# Altium schematic symbol library ACTIVE_LOW_PIN.SchLib: 1 symbol
Pins are listed as number, name and electrical type; pins without a type are passive.

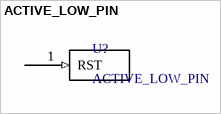
[diagram p0: symbol ACTIVE_LOW_PIN]

## ACTIVE_LOW_PIN
designator U?
Active low pin symbol
pins: 1 RST (in)